# Altium integrated library AD622ANZ.IntLib: 1 symbol
Pins are listed as number, name and electrical type; pins without a type are passive.

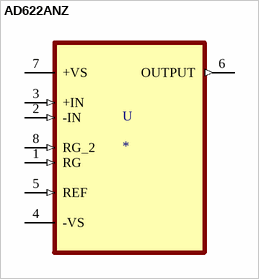
[diagram p0: symbol AD622ANZ]

## AD622ANZ
designator U
Instrumentation Amplifier 1 Circuit 8-PDIP; MP: AD622ANZ; MF: Analog Devices; Availability: Unavailable; SnapEDA_Link: https://www.snapeda.com/parts/AD622ANZ/Analog%20Devices%20Inc./view-part/207874/?ref=snap; Package: PDIP-8 Analog Devices; Price: None; Value: *
footprint DIP254P762X533-8
pins: 1 RG (in), 2 -IN (in), 3 +IN (in), 4 -VS (power), 5 REF (in), 6 OUTPUT (out), 7 +VS (power), 8 RG_2 (in)